# EAGLE library part AMW004 (library Ackme_Library)
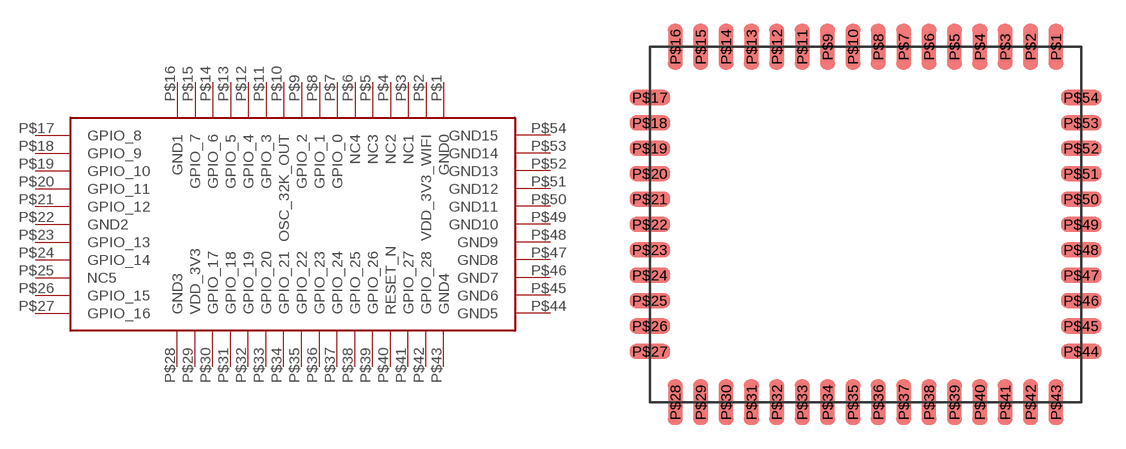
[diagram p0: symbol with the pads of AMW004; footprint AMW004]

Designator prefix -

## AMW004  [AMW004]
P$1  GND0  sup
P$2  VDD_3V3_WIFI  sup
P$3  NC1  nc
P$4  NC2  nc
P$5  NC3  nc
P$6  NC4  nc
P$7  GPIO_0
P$8  GPIO_1
P$9  GPIO_2
P$10  OSC_32K_OUT  out
P$11  GPIO_3
P$12  GPIO_4
P$13  GPIO_5
P$14  GPIO_6
P$15  GPIO_7
P$16  GND1  sup
P$17  GPIO_8
P$18  GPIO_9
P$19  GPIO_10
P$20  GPIO_11
P$21  GPIO_12
P$22  GND2  sup
P$23  GPIO_13
P$24  GPIO_14
P$25  NC5  nc
P$26  GPIO_15
P$27  GPIO_16
P$28  GND3  sup
P$29  VDD_3V3  sup
P$30  GPIO_17
P$31  GPIO_18
P$32  GPIO_19
P$33  GPIO_20
P$34  GPIO_21
P$35  GPIO_22
P$36  GPIO_23
P$37  GPIO_24
P$38  GPIO_25
P$39  GPIO_26
P$40  RESET_N  in
P$41  GPIO_27
P$42  GPIO_28
P$43  GND4  sup
P$44  GND5  sup
P$45  GND6  sup
P$46  GND7  sup
P$47  GND8  sup
P$48  GND9  sup
P$49  GND10  sup
P$50  GND11  sup
P$51  GND12  sup
P$52  GND13  sup
P$53  GND14  sup
P$54  GND15  sup

## Footprint AMW004 (pad centres in mm)
Ackme Wallaby AMW004
smd 0.762 x 2.286: P$1 10.16,8.89; P$2 8.89,8.89; P$3 7.62,8.89; P$4 6.35,8.89; P$5 5.08,8.89; P$6 3.81,8.89; P$7 2.54,8.89; P$8 1.27,8.89; P$9 -1.27,8.89; P$10 0,8.89; P$11 -2.54,8.89; P$12 -3.81,8.89; P$13 -5.08,8.89; P$14 -6.35,8.89; P$15 -7.62,8.89; P$16 -8.89,8.89; P$28 -8.89,-8.89; P$29 -7.62,-8.89; P$30 -6.35,-8.89; P$31 -5.08,-8.89; P$32 -3.81,-8.89; P$33 -2.54,-8.89; P$34 -1.27,-8.89; P$35 0,-8.89; P$36 1.27,-8.89; P$37 2.54,-8.89; P$38 3.81,-8.89; P$39 5.08,-8.89; P$40 6.35,-8.89; P$41 7.62,-8.89; P$42 8.89,-8.89; P$43 10.16,-8.89
smd 2.032 x 0.762: P$17 -10.16,6.35; P$18 -10.16,5.08; P$19 -10.16,3.81; P$20 -10.16,2.54; P$21 -10.16,1.27; P$22 -10.16,0; P$23 -10.16,-1.27; P$24 -10.16,-2.54; P$25 -10.16,-3.81; P$26 -10.16,-5.08; P$27 -10.16,-6.35; P$44 11.43,-6.35; P$45 11.43,-5.08; P$46 11.43,-3.81; P$47 11.43,-2.54; P$48 11.43,-1.27; P$49 11.43,0; P$50 11.43,1.27; P$51 11.43,2.54; P$52 11.43,3.81; P$53 11.43,5.08; P$54 11.43,6.35